# Altium footprint library pcblib1.pcblib: 3 footprints
Each footprint in its own frame and in the unit in brackets; x right, y up, seen from the top. Pads: shape width x height; smd on the part's side, far side on the other; paste and mask are expansions set on the pad; w line width, h text height; cw(c..) or ccw(c..) is an arc to the next point about the centre after c.
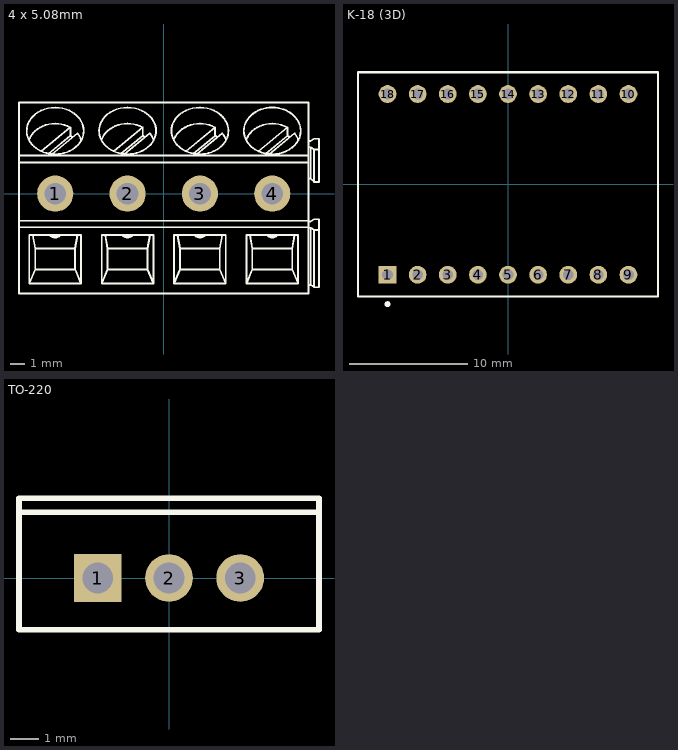
[diagram p0: the footprints below, top view; thin cyan lines are the x and y axes]

## 4 x 5.08mm [mil] "Phoenix Contact 1733596"
pads (4):
  round 100 hole 60: 1(-300,0) 2(-100,0) 3(100,0) 4(300,0)
Top Overlay:
  drawing of 320 lines, arcs and shapes, not listed
3D body: height 602.3, standoff -137.8, extent -400.07,-275.78 429.11,251.78

## K-18 (3D) [mm] "LED, 7-Segment Display, 14.22 mm, Dual Digit; 18 Leads; Row Space 15.24 mm; Pitch 2.54 mm"
height 8.25
pads (18):
  rect 1.5x1.5 hole 0.9: 1(-10.16,-7.62)
  round 1.5 hole 0.9: 2(-7.62,-7.62) 3(-5.08,-7.62) 4(-2.54,-7.62) 5(0,-7.62) 6(2.54,-7.62) 7(5.08,-7.62) 8(7.62,-7.62) 9(10.16,-7.62) 10(10.16,7.62) 11(7.62,7.62) 12(5.08,7.62) 13(2.54,7.62) 14(0,7.62) 15(-2.54,7.62) 16(-5.08,7.62) 17(-7.62,7.62) 18(-10.16,7.62)
Top Overlay:
  circle w0.25: c-10.16,-10.1 r0.125
  lines w0.2: -12.65,-9.45 -12.65,9.45 12.65,9.45 12.65,-9.45 -12.65,-9.45
3D body: height 8, standoff 0, extent -9.532,-0.388 -3.168,0.388
3D body: height 8, standoff 0, extent -8.342,6.342 -1.978,7.118
3D body: height 8, standoff 0, extent -10.722,-7.118 -4.358,-6.342
3D body: height 8, standoff 0, extent -11.278,-5.842 -9.627,-0.66
3D body: height 8, standoff 0, extent -10.389,-1.092 -9.63,-0.332
3D body: height 8, standoff 0, extent -11.278,-6.147 -10.519,-5.386
3D body: height 8, standoff 0, extent -4.293,-6.35 -3.534,-5.59
3D body: height 8, standoff 0, extent -3.404,-1.295 -2.645,-0.535
3D body: height 8, standoff 0, extent -4.293,-6.045 -2.642,-0.864
3D body: height 8, standoff 0, extent -10.084,0.559 -9.325,1.319
3D body: height 8, standoff 0, extent -9.195,5.613 -8.436,6.374
3D body: height 8, standoff 0, extent -10.084,0.864 -8.433,6.045
3D body: height 8, standoff 0, extent -3.099,0.406 -2.34,1.167
3D body: height 8, standoff 0, extent -2.21,5.461 -1.451,6.221
3D body: height 8, standoff 0, extent -3.099,0.711 -1.448,5.893
3D body: height 8, standoff 0, extent 9.601,0.711 11.252,5.893
3D body: height 8, standoff 0, extent 10.49,5.461 11.249,6.221
3D body: height 8, standoff 0, extent 9.601,0.406 10.36,1.167
3D body: height 8, standoff 0, extent 2.616,0.864 4.267,6.045
3D body: height 8, standoff 0, extent 3.505,5.613 4.264,6.374
3D body: height 8, standoff 0, extent 2.616,0.559 3.375,1.319
3D body: height 8, standoff 0, extent 8.407,-6.045 10.058,-0.864
3D body: height 8, standoff 0, extent 9.296,-1.295 10.055,-0.535
3D body: height 8, standoff 0, extent 8.407,-6.35 9.166,-5.59
3D body: height 8, standoff 0, extent 1.422,-6.147 2.181,-5.386
3D body: height 8, standoff 0, extent 2.311,-1.092 3.07,-0.332
3D body: height 8, standoff 0, extent 1.422,-5.842 3.073,-0.66
3D body: height 8, standoff 0, extent 1.978,-7.118 8.342,-6.342
3D body: height 8, standoff 0, extent 4.358,6.342 10.722,7.118
3D body: height 8, standoff 0, extent 3.168,-0.388 9.532,0.388
3D body: height 8, standoff 0, extent -2.108,-7.264 -0.843,-5.997
3D body: height 8, standoff 0, extent 10.592,-7.264 11.857,-5.997
3D body: height 7.98, standoff 0, extent -12.65,-9.45 12.65,9.45

## TO-220 [mm] "TO-220"
height 20.6
pads (3):
  rect 1.7x1.7 hole 1.1: 1(-2.54,0)
  round 1.7 hole 1.1: 2(0,0) 3(2.54,0)
Top Overlay:
  lines w0.2: -5.35,2.35 5.35,2.35 ; -5.35,-1.85 5.35,-1.85 5.35,2.85 -5.35,2.85 -5.35,-1.85
Mechanical 15:
  lines w0.1: -0.5,0 0.5,0 ; 0,-0.5 0,0.5
3D body: height 20.6, standoff 13, extent -5.299,2.301 5.299,2.799
3D body: height 13, standoff 4.1, extent -5.35,-2.15 5.35,2.85
3D body: height 4.1, standoff 0, extent -3.046,-0.279 -2.027,0.279
3D body: height 4.1, standoff 0, extent 2.027,-0.279 3.046,0.279
3D body: height 4.1, standoff 0, extent -0.509,-0.279 0.509,0.279